# Altium schematic symbol library EEUFS2A680B.SchLib: 1 symbol
Pins are listed as number, name and electrical type; pins without a type are passive.

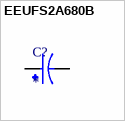
[diagram p0: symbol EEUFS2A680B]

## EEUFS2A680B
designator C?
Cap Aluminum Lytic 68uF 100V 20% (10 X 16mm) Radial 5mm 930mA 8000h 105Â°C Ammo; MP: EEUFS2A680B; MF: Panasonic; Value: *; Package: RADIAL-2 Panasonic; Purchase-URL: https://pricing.snapeda.com/search/part/EEUFS2A680B/?ref=eda; Check_prices: https://www.snapeda.com/parts/EEUFS2A680B/Panasonic/view-part/?ref=eda; SnapEDA_Link: https://www.snapeda.com/parts/EEUFS2A680B/Panasonic/view-part/?ref=snap; Digi-Key_Part_Number: PCE5193CT-ND
footprint CAPPRD500W60D1000H1600
pins: N, P